# EAGLE library part TY-5050 (library LED´s)
Name des Bauteiles: -->SMD LED PLCC6 - 5050 Daten:TY-5050BL3-750 , VF : 3,0 - 3,2 VDC , IV : 500 - 800mcd , WL : 464 - 468nm Artikelnummer:#keine feste Artikelnummer vorhanden / Atikel nicht lagermäßig vorhanden! Datenblatt:http://www.toyo-led.com/5050smd.html __________________________________________ generated by Eagle Description Tool am : 18.02.2014 07:59:33 erstellt von: Hm
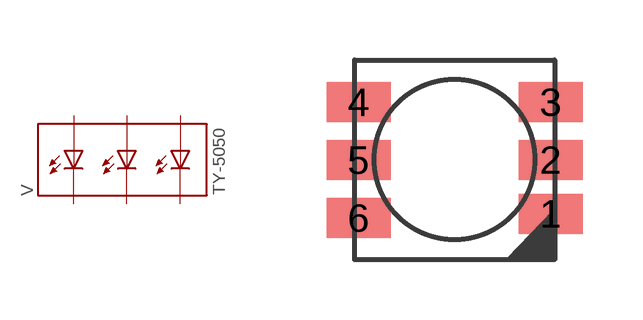
[diagram p0: symbol with the pads of PLCC6; footprint PLCC6]

Designator prefix V

## TY-5050-BL3  [PLCC6]
1  K1  pas
2  K2  pas
3  K3  pas
4  A1  pas
5  A2  pas
6  A3  pas

## Footprint PLCC6 (pad centres in mm)
smd 1.6 x 1: 1 2.4,-1.35; 2 2.4,0; 3 2.4,1.45; 4 -2.4,1.45; 5 -2.4,0; 6 -2.4,-1.45